# Altium footprint library pins.PcbLib: 69 footprints (part 1 of 5)
Each footprint in its own frame and in the unit in brackets; x right, y up, seen from the top. Pads: shape width x height; smd on the part's side, far side on the other; paste and mask are expansions set on the pad; w line width, h text height; cw(c..) or ccw(c..) is an arc to the next point about the centre after c.
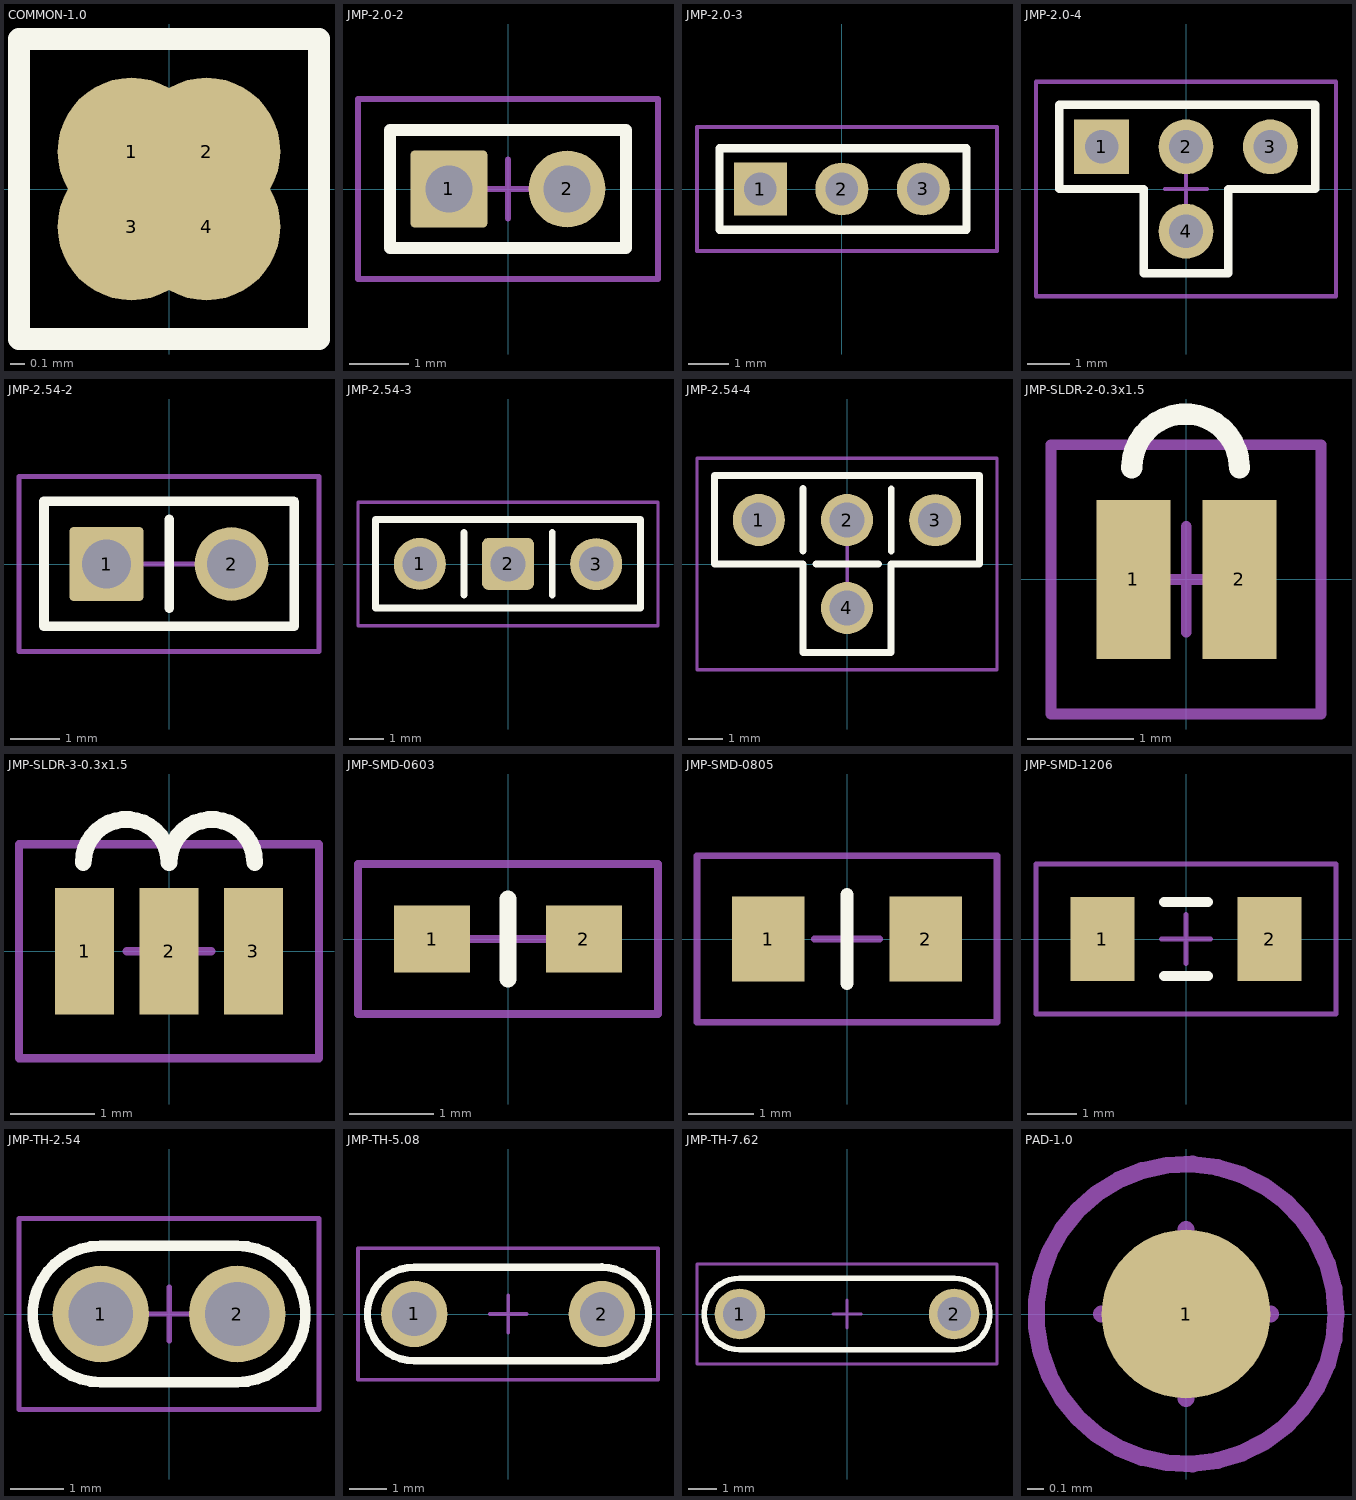
[diagram p0: the footprints below, top view; thin cyan lines are the x and y axes]

## COMMON-1.0 [mm]
pads (4):
  round 1 smd: 1(-0.254,0.254) 2(0.254,0.254) 3(-0.254,-0.254) 4(0.254,-0.254)
Top Overlay:
  lines w0.15: -1.016,-1.016 1.016,-1.016 1.016,1.016 -1.016,1.016 -1.016,-1.016
Mechanical 13:
  lines w0.1: -1.016,-1.016 -1.016,1.016 1.016,1.016 1.016,-1.016 -1.016,-1.016
  text ".Designator" at -0.762,-0.254 h0.7
Mechanical 15:
  lines w0.05: -1.016,-1.016 -1.016,1.016 1.016,1.016 1.016,-1.016 -1.016,-1.016
  lines w0.1: -0.5,0 0.5,0 ; 0,-0.5 0,0.5

## JMP-2.0-2 [mm]
pads (2):
  rrect10% 1.3x1.3 hole 0.8: 1(-1,0)
  round 1.3 hole 0.8: 2(1,0)
Top Overlay:
  lines w0.2: -2,-1 2,-1 2,1 -2,1 -2,-1
Mechanical 13:
  lines w0.1: -2.54,-1.524 -2.54,1.524 2.54,1.524 2.54,-1.524 -2.54,-1.524
  text ".Designator" at -1.524,-0.512 h1.2
Mechanical 15:
  lines w0.05: -2.54,-1.524 2.54,-1.524 2.54,1.524 -2.54,1.524 -2.54,-1.524
  lines w0.1: -0.5,0 0.5,0 ; 0,-0.5 0,0.5
3D body: height 6.5, standoff -2.7, extent -1.254,-0.254 -0.746,0.254
3D body: height 6.5, standoff -2.7, extent 0.746,-0.254 1.254,0.254
3D body: height 1, standoff 0, extent -2,-1 2,1

## JMP-2.0-3 [mm]
pads (3):
  rect 1.3x1.3 hole 0.8: 1(-2,0)
  round 1.3 hole 0.8: 2(0,0) 3(2,0)
Top Overlay:
  lines w0.2: -3,-1 3.064,-1 3.064,1 -3,1 -3,-1
Mechanical 13:
  lines w0.1: -3.556,-1.524 3.81,-1.524 3.81,1.524 -3.556,1.524 -3.556,-1.524
  text ".Designator" at -1.524,-0.512 h1.2
Mechanical 15:
  lines w0.05: -3.556,-1.524 -3.556,1.524 3.81,1.524 3.81,-1.524 -3.556,-1.524
  lines w0.1: -0.5,0 0.5,0 ; 0,-0.5 0,0.5
3D body: height 6.5, standoff -2.7, extent 1.746,-0.254 2.254,0.254
3D body: height 6.5, standoff -2.7, extent -2.254,-0.254 -1.746,0.254
3D body: height 6.5, standoff -2.7, extent -0.254,-0.254 0.254,0.254
3D body: height 1, standoff 0, extent -3,-1 3,1

## JMP-2.0-4 [mm]
pads (4):
  rect 1.3x1.3 hole 0.8: 1(-2,1)
  round 1.3 hole 0.8: 2(0,1) 3(2,1) 4(0,-1)
Top Overlay:
  lines w0.2: 3,0 1,0 1,-2 -1,-2 -1,0 -3,0 -3,2 3.064,2 3.064,0
Mechanical 13:
  lines w0.1: -3.556,-2.54 3.556,-2.54 3.556,2.54 -3.556,2.54 -3.556,-2.54
  text ".Designator" at -1.524,-0.512 h1.2
Mechanical 15:
  lines w0.05: -3.556,-2.54 -3.556,2.54 3.556,2.54 3.556,-2.54 -3.556,-2.54
  lines w0.1: -0.5,0 0.5,0 ; 0,-0.5 0,0.5
3D body: height 1, standoff 0, extent -1,-2 1,0
3D body: height 6.5, standoff -2.7, extent -0.254,-1.254 0.254,-0.746
3D body: height 1, standoff 0, extent -3,0 3,2
3D body: height 6.5, standoff -2.7, extent -0.254,0.746 0.254,1.254
3D body: height 6.5, standoff -2.7, extent -2.254,0.746 -1.746,1.254
3D body: height 6.5, standoff -2.7, extent 1.746,0.746 2.254,1.254

## JMP-2.54-2 [mm]
pads (2):
  rrect10% 1.5x1.5 hole 1: 1(-1.27,0)
  round 1.5 hole 1: 2(1.27,0)
Top Overlay:
  lines w0.2: -2.54,1.27 -2.54,-1.265 2.545,-1.265 2.545,1.265 2.535,1.275 -2.54,1.275 ; 0.005,-0.895 0.005,0.905
Mechanical 13:
  lines w0.1: -3.048,-1.778 -3.048,1.778 3.048,1.778 3.048,-1.778 -3.048,-1.778
  text ".Designator" at -1.524,-0.508 h1.2
Mechanical 15:
  lines w0.05: -3.048,-1.778 -3.048,1.778 3.048,1.778 3.048,-1.778 -3.048,-1.778
  lines w0.1: -0.495,0 0.505,0 ; 0.005,-0.5 0.005,0.5
3D body: height 8.5, standoff -3, extent 1.016,-0.254 1.524,0.254
3D body: height 8.5, standoff -3, extent -1.524,-0.254 -1.016,0.254
3D body: height 2, standoff 0, extent -2.54,-1.265 0.005,1.275
3D body: height 2, standoff 0, extent 0,-1.265 2.545,1.275

## JMP-2.54-3 [mm]
pads (3):
  round 1.5 hole 1: 1(-2.539,0.002) 3(2.539,-0.002)
  rrect25% 1.5x1.5 hole 1: 2(0.001,0.002)
Top Overlay:
  lines w0.2: -3.809,1.272 -3.809,-1.263 3.811,-1.263 3.811,1.277 -3.809,1.277 ; -1.264,-0.893 -1.264,0.907 ; 1.274,-0.897 1.274,0.903
Mechanical 13:
  lines w0.1: -4.318,-1.778 -4.318,1.778 4.318,1.778 4.318,-1.778 -4.318,-1.778
  text ".Designator" at -1.524,-0.508 h1.2
Mechanical 15:
  lines w0.05: -4.318,-1.778 -4.318,1.778 4.318,1.778 4.318,-1.778 -4.318,-1.778
  lines w0.1: -0.499,0.002 0.501,0.002 ; 0.001,-0.498 0.001,0.502 ; 1.274,-0.502 1.274,0.498
3D body: height 2, standoff 0, extent 1.269,-1.267 3.814,1.273
3D body: height 8.5, standoff -3, extent 2.285,-0.256 2.793,0.252
3D body: height 8.5, standoff -3, extent -0.253,-0.251 0.255,0.257
3D body: height 8.5, standoff -3, extent -2.793,-0.251 -2.285,0.257
3D body: height 2, standoff 0, extent -3.809,-1.263 -1.264,1.277
3D body: height 2, standoff 0, extent -1.269,-1.263 1.276,1.277

## JMP-2.54-4 [mm]
pads (4):
  round 1.5 hole 1: 1(-2.539,1.266) 2(0.001,1.266) 3(2.539,1.261) 4(-0.001,-1.266)
Top Overlay:
  lines w0.2: -3.809,-0.004 -1.269,-0.004 -1.269,-2.544 1.271,-2.544 1.271,-0.004 3.811,-0.004 ; -3.809,0.001 -3.809,2.536 ; -3.809,2.541 3.814,2.541 3.814,0.001 ; -1.264,0.371 -1.264,2.171 ; -0.896,-0.001 0.904,-0.001 ; 1.274,0.366 1.274,2.166
Mechanical 13:
  lines w0.1: -4.318,-3.048 -4.318,3.048 4.318,3.048 4.318,-3.048 -4.318,-3.048
  text ".Designator" at -1.524,-0.508 h1.2
Mechanical 15:
  lines w0.05: -4.318,-3.048 -4.318,3.048 4.318,3.048 4.318,-3.048 -4.318,-3.048
  lines w0.1: -0.501,-0.001 0.499,-0.001 ; -0.499,0.004 0.501,0.004 ; 0.001,-0.496 0.001,0.504 ; 1.274,0.761 1.274,1.761
3D body: height 8.5, standoff -3, extent -0.253,1.012 0.255,1.52
3D body: height 8.5, standoff -3, extent -2.793,1.012 -2.285,1.52
3D body: height 2, standoff 0, extent -3.809,0.001 -1.264,2.541
3D body: height 2, standoff 0, extent -1.269,0.001 1.276,2.541
3D body: height 2, standoff 0, extent 1.269,-0.004 3.814,2.536
3D body: height 8.5, standoff -3, extent 2.285,1.007 2.793,1.515
3D body: height 2, standoff 0, extent -1.266,-2.541 1.274,0.004
3D body: height 8.5, standoff -3, extent -0.255,-1.52 0.253,-1.012

## JMP-SLDR-2-0.3x1.5 [mm]
pads (2):
  rect 0.7x1.5 smd: 1(-0.5,0) 2(0.5,0)
Top Overlay:
  lines w0.2: -0.516,1.054 cw(c-0.008,1.054) 0.5,1.054
Mechanical 13:
  lines w0.1: -1.278,-1.27 -1.278,1.27 1.27,1.27 1.27,-1.27 -1.278,-1.27
  text ".Designator" at -0.889,-0.381 h0.8
Mechanical 15:
  lines w0.05: -1.278,-1.27 -1.278,1.27 1.262,1.27 1.262,-1.27 -1.278,-1.27
  lines w0.1: -0.5,0 0.5,0 ; 0,-0.5 0,0.5

## JMP-SLDR-3-0.3x1.5 [mm]
pads (3):
  rect 0.7x1.5 smd: 1(-1,0) 2(0,0) 3(1,0)
Top Overlay:
  lines w0.2: -1.016,1.054 cw(c-0.508,1.054) 0,1.054 cw(c0.508,1.054) 1.016,1.054
Mechanical 13:
  lines w0.1: -1.778,-1.27 1.778,-1.27 1.778,1.27 -1.778,1.27 -1.778,-1.27
  text ".Designator" at -1.016,-0.508 h0.9
Mechanical 15:
  lines w0.05: -1.778,-1.27 1.778,-1.27 1.778,1.27 -1.778,1.27 -1.778,-1.27
  lines w0.1: -0.5,0 0.5,0 ; 0,-0.5 0,0.5

## JMP-SMD-0603 [mm] "Chip Capacitor, 2-Leads, Body 1,60x0,80mm, IPC Medium Density"
height 0.9
pads (2):
  rect 0.9x0.8 smd: 1(-0.9,0) 2(0.9,0)
Top Overlay:
  lines w0.2: 0,-0.475 0,0.475
Mechanical 13:
  lines w0.1: -1.778,-0.889 1.778,-0.889 1.778,0.889 -1.778,0.889 -1.778,-0.889
  text ".Designator" at -1.05,-0.45 h0.9
Mechanical 15:
  lines w0.05: -1.778,-0.889 1.778,-0.889 1.778,0.889 -1.778,0.889 -1.778,-0.889
  lines w0.1: -0.45,0 0.45,0 ; 0,-0.45 0,0.45
3D body: height 0.9, standoff 0, extent 0.55,-0.45 0.85,0.45
3D body: height 0.9, standoff 0, extent -0.85,-0.45 -0.55,0.45
3D body: height 0.9, standoff 0, extent -0.55,-0.45 0.55,0.45

## JMP-SMD-0805 [mm] "Chip Resistor, 2-Leads, Body 2,00x1,25mm, IPC Medium Density"
height 0.7
pads (2):
  rect 1.1x1.3 smd: 1(-1.2,0) 2(1.2,0)
Top Overlay:
  lines w0.2: 0,-0.675 0,0.675
Mechanical 13:
  lines w0.1: -2.286,-1.27 2.286,-1.27 2.286,1.27 -2.286,1.27 -2.286,-1.27
  text ".Designator" at -1.3,-0.5 h1
Mechanical 15:
  lines w0.05: -2.286,-1.27 2.286,-1.27 2.286,1.27 -2.286,1.27 -2.286,-1.27
  lines w0.1: -0.5,0 0.5,0 ; 0,-0.5 0,0.5
3D body: height 0.7, standoff 0, extent 0.7,-0.675 1.1,0.675
3D body: height 0.7, standoff 0, extent -1.1,-0.675 -0.7,0.675
3D body: height 0.7, standoff 0, extent -0.7,-0.675 0.7,0.675

## JMP-SMD-1206 [mm] "Chip Resistor, 2-Leads, Body 3,13x1,55mm, IPC Medium Density"
height 0.7
pads (2):
  rect 1.3x1.7 smd: 1(-1.7,0) 2(1.7,0)
Top Overlay:
  lines w0.2: -0.45,-0.75 0.45,-0.75 ; -0.45,0.75 0.45,0.75
Mechanical 13:
  lines w0.1: -3.048,-1.524 3.048,-1.524 3.048,1.524 -3.048,1.524 -3.048,-1.524
  text ".Designator" at -1.7,-0.7 h1.4
Mechanical 15:
  lines w0.05: -3.048,-1.524 3.048,-1.524 3.048,1.524 -3.048,1.524 -3.048,-1.524
  lines w0.1: -0.5,0 0.5,0 ; 0,-0.5 0,0.5
3D body: height 0.7, standoff 0, extent 1.125,-0.825 1.625,0.825
3D body: height 0.7, standoff 0, extent -1.625,-0.825 -1.125,0.825
3D body: height 0.7, standoff 0, extent -1.125,-0.825 1.125,0.825

## JMP-TH-2.54 [mm]
pads (2):
  round 1.8 hole 1.2: 1(-1.27,0) 2(1.27,0)
Top Overlay:
  lines w0.2: -1.27,-1.27 cw(c-1.27,0) -1.27,1.27 1.27,1.27 cw(c1.27,0) 1.27,-1.27 -1.27,-1.27
Mechanical 13:
  lines w0.1: -2.794,-1.778 2.794,-1.778 2.794,1.778 -2.794,1.778 -2.794,-1.778
  text ".Designator" at -1.27,-0.508 h1.2
Mechanical 15:
  lines w0.05: -2.794,-1.778 2.794,-1.778 2.794,1.778 -2.794,1.778 -2.794,-1.778
  lines w0.1: -0.495,0 0.505,0 ; 0.005,-0.5 0.005,0.5

## JMP-TH-5.08 [mm]
pads (2):
  round 1.8 hole 1.2: 1(-2.54,0.003) 2(2.545,0)
Top Overlay:
  lines w0.2: 2.535,1.275 2.545,1.265 ; -2.54,-1.27 cw(c-2.54,0) -2.54,1.27 2.54,1.27 cw(c2.54,0) 2.54,-1.27 -2.54,-1.27
Mechanical 13:
  lines w0.1: -4.064,-1.778 -4.064,1.778 4.064,1.778 4.064,-1.778 -4.064,-1.778
  text ".Designator" at -1.27,-0.508 h1.2
Mechanical 15:
  lines w0.05: -4.064,-1.778 -4.064,1.778 4.064,1.778 4.064,-1.778 -4.064,-1.778
  lines w0.1: -0.495,0 0.505,0 ; 0.005,-0.5 0.005,0.5

## JMP-TH-7.62 [mm]
pads (2):
  round 1.8 hole 1.2: 1(-3.81,0) 2(3.81,0)
Top Overlay:
  lines w0.2: -3.81,-1.27 cw(c-3.81,0) -3.81,1.27 3.81,1.27 cw(c3.81,0) 3.81,-1.27 -3.81,-1.27
Mechanical 13:
  lines w0.1: -5.334,-1.778 -5.334,1.778 5.334,1.778 5.334,-1.778 -5.334,-1.778
  text ".Designator" at -1.27,-0.508 h1.2
Mechanical 15:
  lines w0.05: -5.334,-1.778 -5.334,1.778 5.334,1.778 5.334,-1.778 -5.334,-1.778
  lines w0.1: -0.495,0 0.505,0 ; 0.005,-0.5 0.005,0.5

## PAD-1.0 [mm]
pads (1):
  round 1 smd: 1(0,0)
Mechanical 13:
  circle w0.1: c0,0 r0.889
  text ".Designator" at -0.508,-0.381 h0.7
Mechanical 15:
  circle w0.05: c0,0 r0.889
  lines w0.1: -0.5,0 0.5,0 ; 0,-0.5 0,0.5